# Altium integrated library Antenna.IntLib: 2 symbols
Pins are listed as number, name and electrical type; pins without a type are passive.

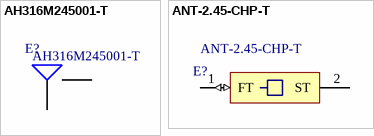
[diagram p0: symbols AH316M245001-T to ANT-2.45-CHP-T]

## AH316M245001-T
designator E?  MPN: AH316M245001-T  (hidden comment: *)
ANT BLUETOOTH W-LAN ZIGBEE WIMAX; MFT: Taiyo Yuden; VALUE: AH316M245001-T; TYPE: Surface Mount
footprint AH316M245001-T
pins: 1 INPIT, 2 GND

## ANT-2.45-CHP-T
designator E?  MPN: ANT-2.45-CHP-T  (hidden comment: *)
Antennas 2.45GHz Chip Ant.; MFT: Linx Technologies; VALUE: ANT-2.45-CHP-T; TYPE: SMD/SMT
footprint ANT-2.45-CHP-T
pins: 1 FT (io), 2 ST